# EAGLE library part LMR51430YDDCR (library LMR51430YDDCR)
Switching Voltage Regulators SIMPLE SWITCHER® 4.5-V to 36-V, 3-A synchronous buck converter with 40-µA IQ Source: Datasheet <https://www.ti.com/lit/ds/symlink/lmr51430.pdf?ts=1657817980313&ref_url=https%3A%2F%2Fwww.ti.com%2Fproduct%2FLMR51430%3FkeyMatch%3DLMR51430%26tisearch%3Dsearch-everything%26usecase%3DGPN>
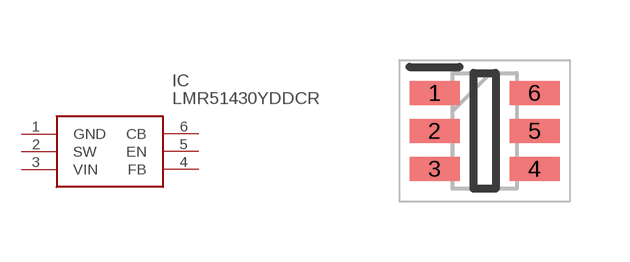
[diagram p0: symbol with the pads of SOT95P280X110-6N; footprint SOT95P280X110-6N]

Designator prefix IC

## LMR51430YDDCR (Arrow_Part_Number: LMR51430YDDCR; Arrow_Price-Stock: https://www.arrow.com/en/products/lmr51430yddcr/texas-instruments?utm_currency=USD&region=nac; Description: Switching Voltage Regulators SIMPLE SWITCHER&reg; 4.5-V to 36-V, 3-A synchronous buck converter with 40-&micro;A IQ; Height: 1.1mm; Manufacturer_Name: Texas Instruments; Manufacturer_Part_Number: LMR51430YDDCR; Mouser_Part_Number: 595-LMR51430YDDCR; Mouser_Price-Stock: https://www.mouser.co.uk/ProductDetail/Texas-Instruments/LMR51430YDDCR?qs=vvQtp7zwQdMdLcsY5sFiMg%3D%3D)  [SOT95P280X110-6N]
1  GND
2  SW
3  VIN
4  FB
5  EN
6  CB

## Footprint SOT95P280X110-6N (pad centres in mm)
DDC0006A-2021
smd 1.25 x 0.6: 1 -1.25,0.95; 2 -1.25,0; 3 -1.25,-0.95; 4 1.25,-0.95; 5 1.25,0; 6 1.25,0.95